# EAGLE library part 25*320A-I/? (library mchp-memories)
32K SPI Bus Serial EEPROM Description The Microchip Technology Inc. 25AA320A/25LC320A (25XX320A*) are 32 kbit Serial Electrically Erasable PROMs. The memory is accessed via a simple Serial Peripheral Interface (SPI) compatible serial bus. The bus signals required are a clock input (SCK) plus separate data in (SI) and data out (SO) lines. Access to the device is controlled through a Chip Select (CS) input. Communication to the device can be paused via the hold pin (HOLD). While the device is paused, transitions on its inputs will be ignored, with the exception of Chip Select, allowing the host to service higher priority interrupts. The 25XX320A is available in standard packages including 8-lead PDIP and SOIC, and advanced packaging including 8-lead MSOP, TSSOP and 2x3 TDFN. FEATURES Max. Clock 10 MHz Low-Power CMOS Technology - Max. Write Current: 5 mA at 5.5V, 10 MHz - Read Current: 5 mA at 5.5V, 10 MHz- Standby Current: 5 µA at 5.5V 4096 x 8-bit Organization 32-Byte Page Self-Timed Erase and Write Cycles (5 ms max.) Block Write Protection- Protect none, 1/4, 1/2 or all of array Built-in Write Protection- Power-on/off data protection circuitry- Write enable latch- Write-protect pin Sequential Read High Reliability- Endurance: >1M erase/write cycles- Data retention: > 200 years- ESD protection: > 4000V How to order Family Voltage Density Temp Package 25 = eeprom AA = 1.8-5.5v LC = 2.5-5.5v 230A = 32Kbits Industrial (I): -40°C to +85°C Automotive (E): -40°C to +125°C P = PDIP SN = SOIC ST = TSSOP MS = MSOP MNY = TDFN Ref: Datasheet <http://ww1.microchip.com/downloads/en/DeviceDoc/21828F.pdf>
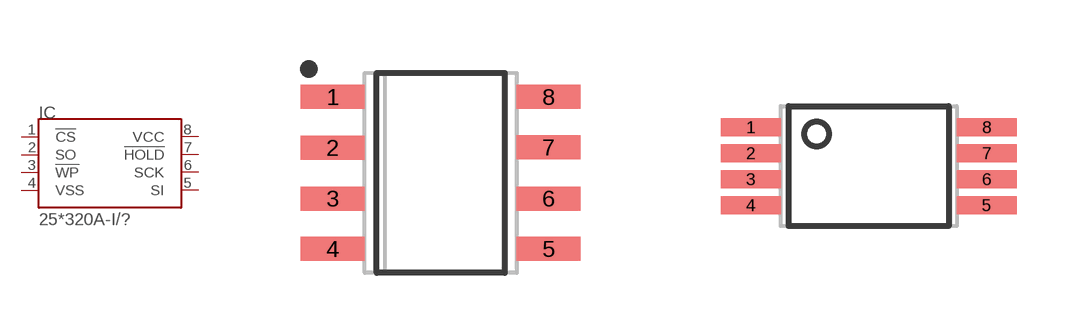
[diagram p0: symbol with the pads of SOIC127P600X175-8N; footprints SOIC127P600X175-8N, SOP65P640X110-8N]

Designator prefix IC

## 25@320A-I/SN (EAGLEUP: SOIC127P600X175-8N), 25LC320A-I/SN (AVRG-PRICE: 0.75; DATASHEET: http://ww1.microchip.com/downloads/en/DeviceDoc/21828F.pdf; DESCRIPTION: 32K BIT SPI SEEPROM 2.5V; DIGIKEY: 25LC320A-I/SN-ND; EAGLEUP: SOIC127P600X175-8N; MOUSER: 579-25LC320A-I/SN; NEWARK: 31K5833; OCTOPART-LINK: http://octopart.com/25lc320a-i%2Fsn-microchip-843316)  [SOIC127P600X175-8N]
1  !CS
2  SO
3  !WP
4  VSS  pwr
5  SI
6  SCK
7  !HOLD
8  VCC  pwr

## 25@320A-I/ST  [SOP65P640X110-8N]
Pads as for SOIC127P600X175-8N

## 25@320A-I/MS  [SOP65P490X109-8M]
Pads as for SOIC127P600X175-8N

## Footprint SOIC127P600X175-8N (pad centres in mm)
Small Outline Package (SOIC8) 1.27mm Pitch 0.5mm Pin Width 8 Pin count 3.9mm L x 4.9mm W x 1.75mm H ----------------------------------------------------
smd 1.6 x 0.6: 1 -2.7,1.9; 2 -2.7,0.63; 3 -2.7,-0.64; 4 -2.7,-1.9; 5 2.7,-1.9; 6 2.7,-0.64; 7 2.7,0.64; 8 2.7,1.9

## Footprint SOP65P640X110-8N (pad centres in mm)
Small Outline Package (SOP8) 0.65mm Pitch 8 Pin count 4.4mm L x 3.0mm W x 1.2mm H ----------------------------------------------------
smd 1.5 x 0.45: 1 -2.95,0.975; 2 -2.95,0.325; 3 -2.95,-0.325; 4 -2.95,-0.975; 5 2.95,-0.975; 6 2.95,-0.325; 7 2.95,0.325; 8 2.95,0.975

## Footprint SOP65P490X109-8M (pad centres in mm)
Small Outline Package (SOP8) 0.65mm Pitch 8 Pin count 3.0mm L x 3.0mm W x 1.1mm H ----------------------------------------------------
smd 1.65 x 0.45: 1 -2.3,0.975; 2 -2.3,0.325; 3 -2.3,-0.325; 4 -2.3,-0.975; 5 2.3,-0.975; 6 2.3,-0.325; 7 2.3,0.325; 8 2.3,0.975